# Altium schematic symbol library rohm-mosfet.SchLib: 1 symbol
Pins are listed as number, name and electrical type; pins without a type are passive.

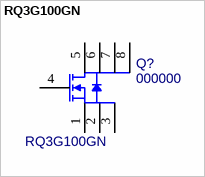
[diagram p0: symbol RQ3G100GN]

## RQ3G100GN
designator Q?, comment 000000  value RQ3G100GN
N-Channel MOSFET 40V, 10A; PN: 000000; Package: HSMT8; ExtraInfo: *
footprint HSMT8 (8-Leads, Body 3.0x3.0mm (max), Pitch 0.65mm, IPC Medium Density)
pins: 1 S, 2 S, 3 S, 4 G, 5 D, 6 D, 7 D, 8 D